# Altium footprint library 2049270301.PcbLib: 1 footprints
Each footprint in its own frame and in the unit in brackets; x right, y up, seen from the top. Pads: shape width x height; smd on the part's side, far side on the other; paste and mask are expansions set on the pad; w line width, h text height; cw(c..) or ccw(c..) is an arc to the next point about the centre after c.
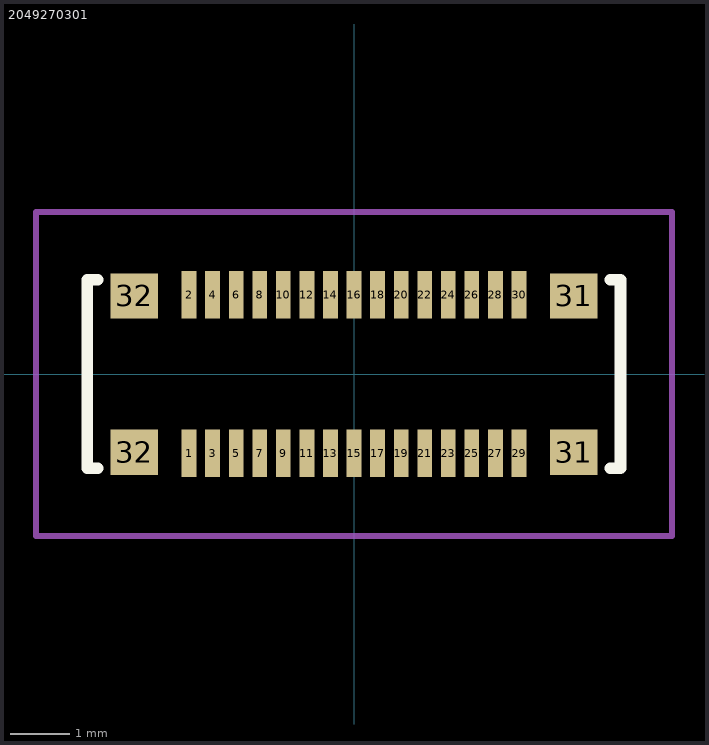
[diagram p0: the footprint, top view; thin cyan lines are the x and y axes]

## 2049270301 [mm] "SlimStack Board-to-Board.  / Receptacle, 0.40mm Pitch, FSB3 Floating Series, / 3.00mm Mated Height, 3.20mm Mated Width, 30 Circuits"
pads (34):
  rect 0.25x0.81 smd: 1(-2.8,-1.345) 2(-2.8,1.345) 3(-2.4,-1.345) 4(-2.4,1.345) 5(-2,-1.345) 6(-2,1.345) 7(-1.6,-1.345) 8(-1.6,1.345) 9(-1.2,-1.345) 10(-1.2,1.345) 11(-0.8,-1.345) 12(-0.8,1.345) 13(-0.4,-1.345) 14(-0.4,1.345) 15(0,-1.345) 16(0,1.345) 17(0.4,-1.345) 18(0.4,1.345) 19(0.8,-1.345) 20(0.8,1.345) 21(1.2,-1.345) 22(1.2,1.345) 23(1.6,-1.345) 24(1.6,1.345) 25(2,-1.345) 26(2,1.345) 27(2.4,-1.345) 28(2.4,1.345) 29(2.8,-1.345) 30(2.8,1.345)
  rect 0.8x0.77 smd: 31(3.73,-1.325) 31(3.73,1.325) 32(-3.73,-1.325) 32(-3.73,1.325)
Top Overlay:
  lines w0.2: -4.35,-1.6 -4.528,-1.6 -4.528,1.6 -4.35,1.6 ; 4.35,-1.6 4.524,-1.6 4.524,1.6 4.35,1.6
Top Courtyard:
  lines w0.1: -5.4,-2.75 5.4,-2.75 5.4,2.75 -5.4,2.75 -5.4,-2.75
3D body "2049270301.stp": height 1.64, standoff -0.03, extent -4.405,-1.6 4.405,1.6